# Altium integrated library ST Video Colour Decoder Circuit.IntLib: 5 symbols
Pins are listed as number, name and electrical type; pins without a type are passive.

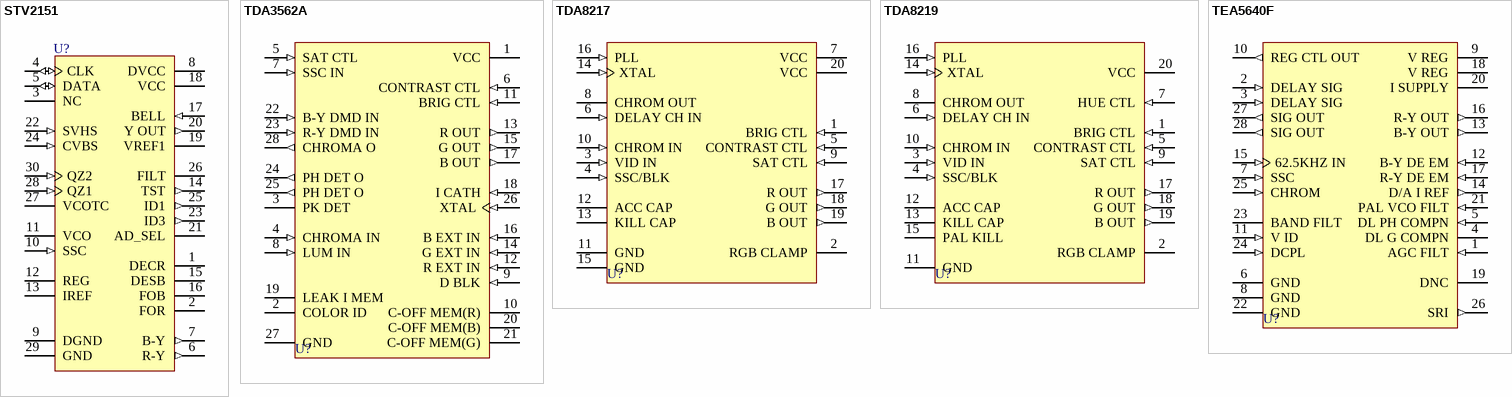
[diagram p0: symbols STV2151 to TEA5640F]

## STV2151
designator U?
Full Automatic Multistandard Chroma Decoder with Embedded Chroma Delay Line; Published: 24-Aug-2001; LatestRevisionDate: 6-Jun-2005; LatestRevisionNote: Stylized 3D Model Added.; DatasheetDocument: Jan-1995; PackageDocument: Nov-1999; PackageReference: SDIP30; Publisher: Altium Limited; ComponentLink1Description: Manufacturer Link; ComponentLink1URL: http://www.st.com/
footprint SDIP30 (DIP; 30 Leads; Row Spacing 10.16 mm; Pitch 1.778 mm)
3D model SDIP30 (DIP; 30 Leads; Row Spacing 10.16 mm; Pitch 1.778 mm)
pins: 1 DECR, 2 FOR, 3 NC, 4 CLK (io), 5 DATA (io), 6 R-Y (out), 7 B-Y (out), 8 DVCC (power), 9 DGND (power), 10 SSC (in), 11 VCO, 12 REG (power), 13 IREF, 14 TST (out), 15 DESB, 16 FOB, 17 BELL (in), 18 VCC (power), 19 VREF1, 20 Y OUT (out), 21 AD_SEL, 22 SVHS (in), 23 ID3 (out), 24 CVBS (in), 25 ID1 (out), 26 FILT, 27 VCOTC, 28 QZ1 (in), 29 GND (power), 30 QZ2 (in)

## TDA3562A
designator U?
PAL/NTSC One-Chip Decoder; Published: 24-Aug-2001; LatestRevisionDate: 6-Jun-2005; LatestRevisionNote: Stylized 3D Model Added.; DatasheetDocument: Jun-1993; PackageDocument: Jan-2003; PackageReference: PDIP28; Publisher: Altium Limited; ComponentLink1Description: Manufacturer Link; ComponentLink1URL: http://www.st.com/
footprint PDIP28 (DIP; 28 Leads; Row Spacing 15.24 mm; Pitch 2.54 mm)
3D model PDIP28 (DIP; 28 Leads; Row Spacing 15.24 mm; Pitch 2.54 mm)
pins: 1 VCC (power), 2 COLOR ID, 3 PK DET, 4 CHROMA IN (in), 5 SAT CTL (in), 6 CONTRAST CTL (in), 7 SSC IN (in), 8 LUM IN (in), 9 D BLK (in), 10 C-OFF MEM(R), 11 BRIG CTL (in), 12 R EXT IN (in), 13 R OUT (out), 14 G EXT IN (in), 15 G OUT (out), 16 B EXT IN (in), 17 B OUT (out), 18 I CATH (in), 19 LEAK I MEM, 20 C-OFF MEM(B), 21 C-OFF MEM(G), 22 B-Y DMD IN (in), 23 R-Y DMD IN (in), 24 PH DET O (out), 25 PH DET O (out), 26 XTAL (in), 27 GND (power), 28 CHROMA O (out)

## TDA8217
designator U?
PAL Decoder and Video Processor; Published: 24-Aug-2001; LatestRevisionDate: 6-Jun-2005; LatestRevisionNote: Stylized 3D Model Added.; DatasheetDocument: Apr-1996; PackageDocument: Jun-1998; PackageReference: DIP20; Publisher: Altium Limited; Code_JEDEC: MS-015-AE; ComponentLink1Description: Manufacturer Link; ComponentLink1URL: http://www.st.com/
footprint DIP20 (DIP; 20 Leads; Row Spacing 7.62 mm; Pitch 2.54 mm)
3D model DIP20 (DIP; 20 Leads; Row Spacing 7.62 mm; Pitch 2.54 mm)
pins: 1 BRIG CTL (in), 2 RGB CLAMP, 3 VID IN (in), 4 SSC/BLK (in), 5 CONTRAST CTL (in), 6 DELAY CH IN (in), 7 VCC (power), 8 CHROM OUT (oe), 9 SAT CTL (in), 10 CHROM IN (in), 11 GND (power), 12 ACC CAP, 13 KILL CAP, 14 XTAL (in), 15 GND (power), 16 PLL (in), 17 R OUT (out), 18 G OUT (out), 19 B OUT (out), 20 VCC (power)

## TDA8219
designator U?
PAL/NTSC Decoder and Video Processor; Published: 24-Aug-2001; LatestRevisionDate: 6-Jun-2005; LatestRevisionNote: Stylized 3D Model Added.; DatasheetDocument: Apr-1996; PackageDocument: Jun-1998; PackageReference: DIP20; Publisher: Altium Limited; Code_JEDEC: MS-015-AE; ComponentLink1Description: Manufacturer Link; ComponentLink1URL: http://www.st.com/
footprint DIP20 (DIP; 20 Leads; Row Spacing 7.62 mm; Pitch 2.54 mm)
3D model DIP20 (DIP; 20 Leads; Row Spacing 7.62 mm; Pitch 2.54 mm)
pins: 1 BRIG CTL (in), 2 RGB CLAMP, 3 VID IN (in), 4 SSC/BLK (in), 5 CONTRAST CTL (in), 6 DELAY CH IN (in), 7 HUE CTL (in), 8 CHROM OUT (oe), 9 SAT CTL (in), 10 CHROM IN (in), 11 GND (power), 12 ACC CAP, 13 KILL CAP, 14 XTAL (in), 15 PAL KILL, 16 PLL (in), 17 R OUT (out), 18 G OUT (out), 19 B OUT (out), 20 VCC (power)

## TEA5640F
designator U?
PAL/SECAM Colour TV Decoder; Note: Do Not Connect (DNC) pin number 19.; Published: 24-Aug-2001; LatestRevisionDate: 6-Jun-2005; LatestRevisionNote: Stylized 3D Model Added.; DatasheetDocument: May-1993; PackageDocument: Jan-2003; PackageReference: PDIP28; Publisher: Altium Limited; ComponentLink1Description: Manufacturer Link; ComponentLink1URL: http://www.st.com/
footprint PDIP28 (DIP; 28 Leads; Row Spacing 15.24 mm; Pitch 2.54 mm)
3D model PDIP28 (DIP; 28 Leads; Row Spacing 15.24 mm; Pitch 2.54 mm)
pins: 1 AGC FILT (in), 2 DELAY SIG (in), 3 DELAY SIG (in), 4 DL G COMPN, 5 DL PH COMPN (in), 6 GND (power), 7 SSC (in), 8 GND (power), 9 V REG (power), 10 REG CTL OUT (out), 11 V ID (in), 12 B-Y DE EM (in), 13 B-Y OUT (out), 14 D/A I REF (out), 15 62.5KHZ IN (in), 16 R-Y OUT (out), 17 R-Y DE EM (in), 18 V REG (power), 19 DNC, 20 I SUPPLY (power), 21 PAL VCO FILT (in), 22 GND (power), 23 BAND FILT, 24 DCPL (in), 25 CHROM (in), 26 SRI (out), 27 SIG OUT (out), 28 SIG OUT (out)